# EAGLE library part CON-DB9F-SHD (library Mechanical)
DB9 female connector with shield pins
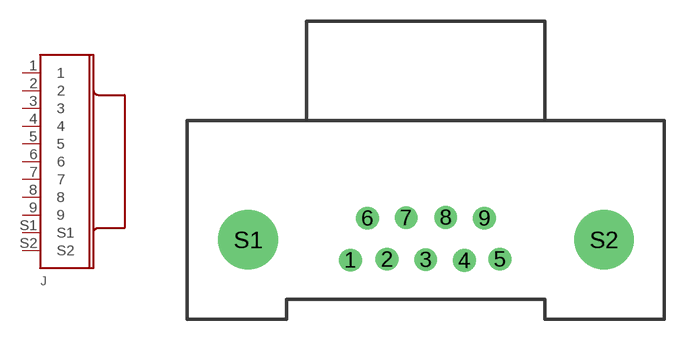
[diagram p38: symbol with the pads of CON-DB9F-SHD; footprint CON-DB9F-SHD]

Designator prefix J

## CON-DB9F-SHD  [CON-DB9F-SHD]
1  1  pas
2  2  pas
3  3  pas
4  4  pas
5  5  pas
6  6  pas
7  7  pas
8  8  pas
9  9  pas
S1  S1
S2  S2

## Footprint CON-DB9F-SHD (pad centres in mm)
drill 1.067: 1 -5.29,-0.031; 2 -2.714,0.031; 3 0,0; 4 2.714,-0.061; 5 5.214,0.03; 6 -4.098,2.915; 7 -1.376,2.946; 8 1.407,2.977; 9 4.129,2.915
drill 3.175: S1 -12.481,1.397; S2 12.543,1.397